# Altium footprint library Terminal_Blocks.PcbLib: 1 footprints
Each footprint in its own frame and in the unit in brackets; x right, y up, seen from the top. Pads: shape width x height; smd on the part's side, far side on the other; paste and mask are expansions set on the pad; w line width, h text height; cw(c..) or ccw(c..) is an arc to the next point about the centre after c.
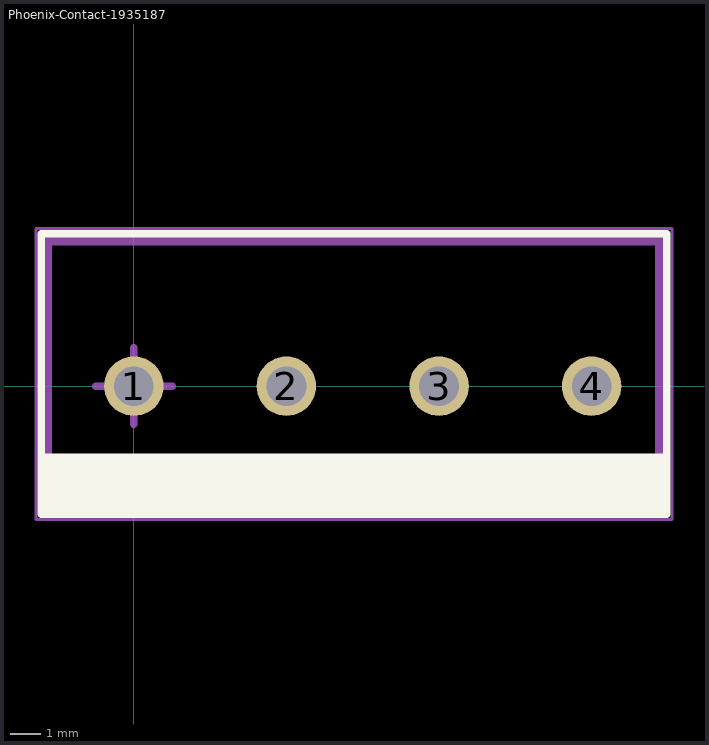
[diagram p0: the footprint, top view; thin cyan lines are the x and y axes]

## Phoenix-Contact-1935187 [mm] "Barrier Strip Terminal Block, 17.5A, 1.5mm2, 1 Row(s), 1 Deck(s)"
pads (4):
  round 1.95 hole 1.3: 1(0,0) 2(5,0) 3(10,0) 4(15,0)
Top Overlay:
  rectangle: -3.038,-4.197 17.4,-2.2
  lines w0.25: -3.038,-4.197 -3.038,4.992 17.458,4.992 17.458,-4.197 -3.038,-4.197
Top Assembly:
  lines w0.25: -2.938,-3.989 -2.938,4.739 17.373,4.739 17.373,-3.989 -2.938,-3.989
Top Component Center:
  lines w0.25: -1.25,0 1.25,0 ; 0,-1.25 0,1.25
Top Component Outline:
  lines w0.25: -2.8,-4.1 17.2,-4.1 17.2,4.9 -2.8,4.9 -2.8,-4.1
Top Courtyard:
  lines w0.1: -3.213,-4.371 -3.213,5.167 17.64,5.167 17.64,-4.371 -3.213,-4.371
Top Designator:
  text ".Designator" at 0.282,-0.508 h1.52
3D body "1935187.stp": height 11.41, standoff -3.49, extent -3.07,-4.125 17.5,4.875